# Altium schematic symbol library Michel.SchLib: 45 symbols
Pins are listed as number, name and electrical type; pins without a type are passive.

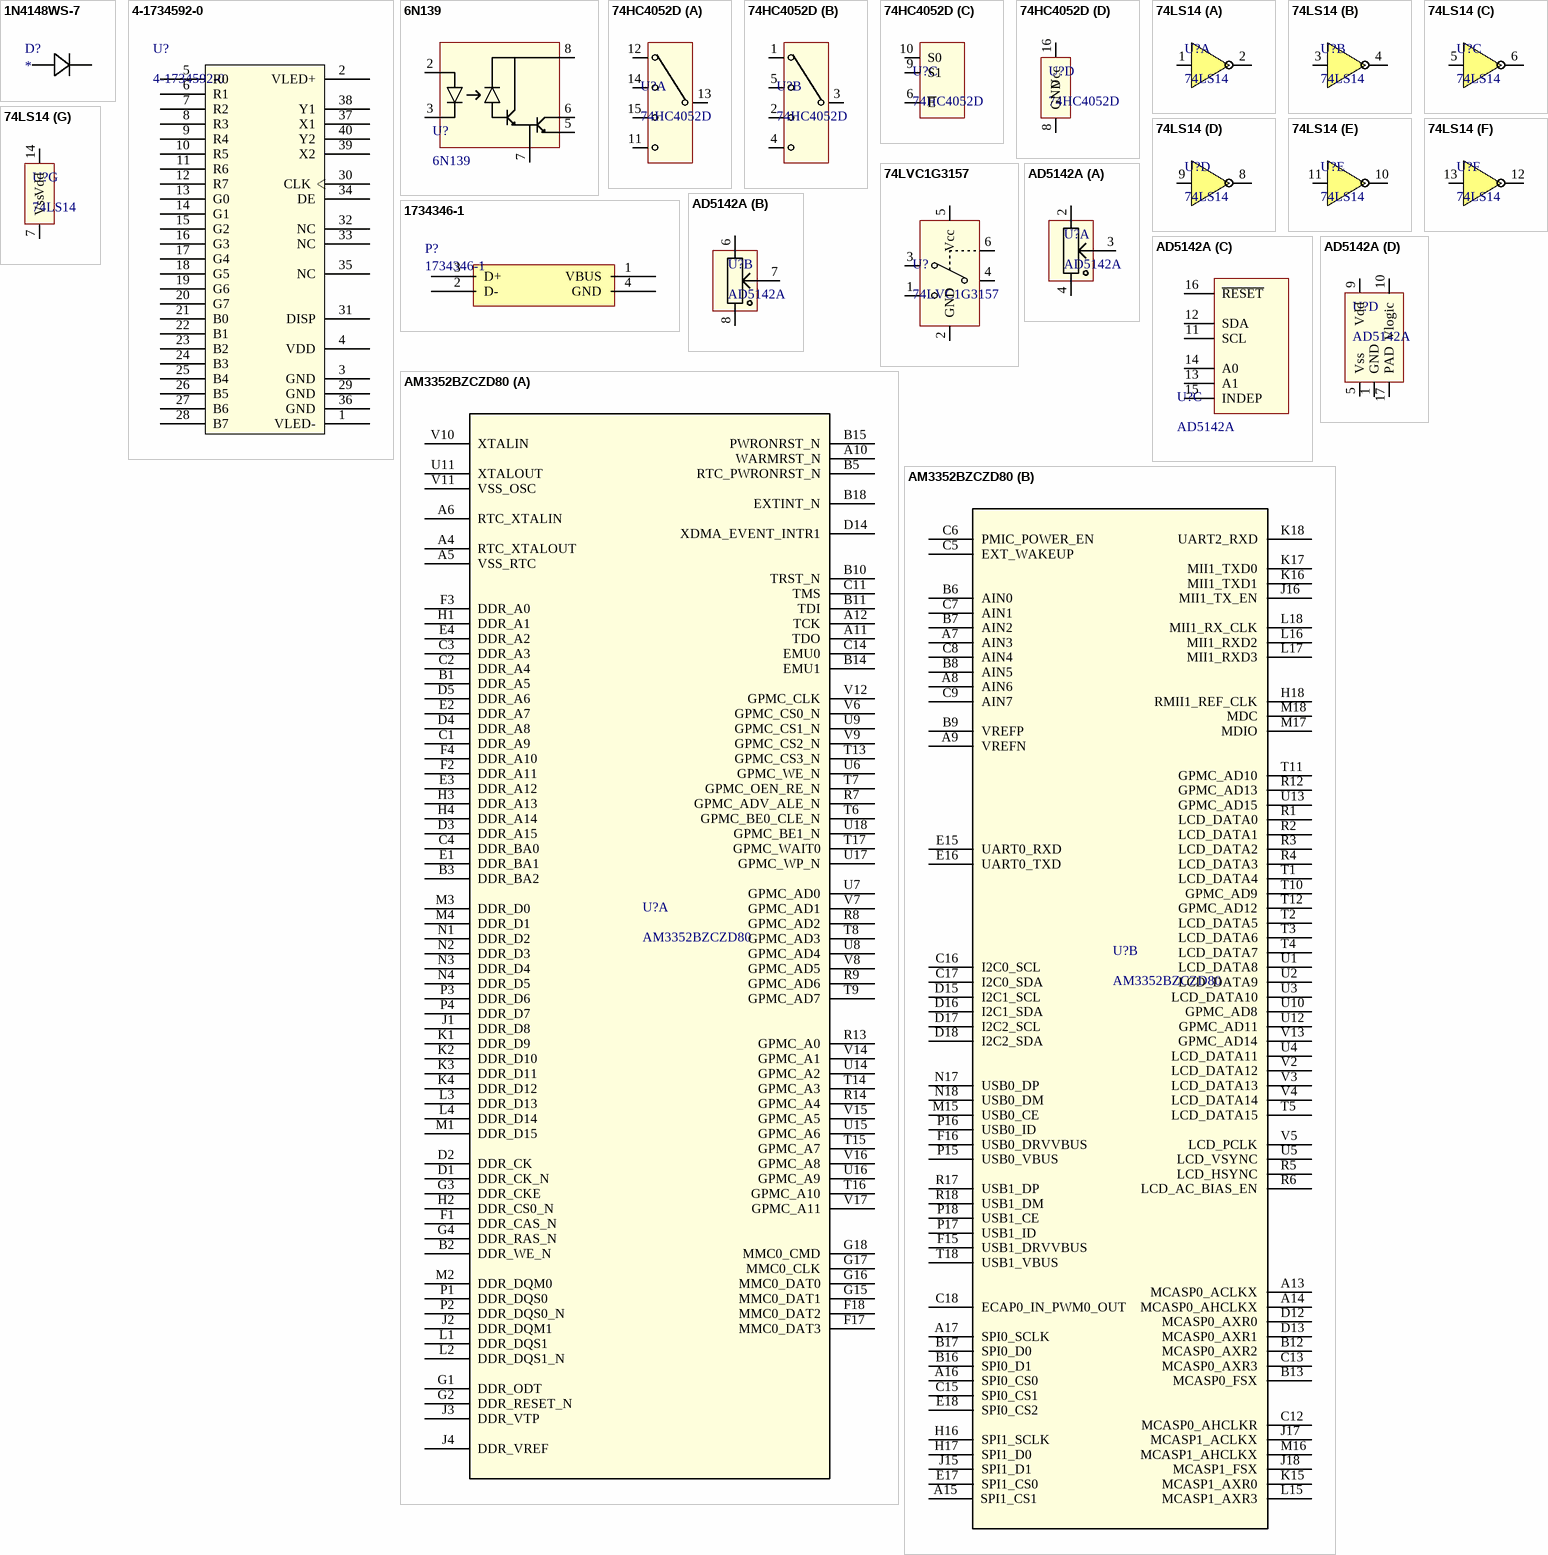
[diagram p0: symbols 1N4148WS-7 to AM3352BZCZD80]

## 1N4148WS-7
designator D?
Diode signaux faibles; RefFabricant: 1N4148WS; RefFournisseur: 2453269; Fabricant: ON SEMICONDUCTOR; Fournisseur: Farnell; DataSheet: http://www.farnell.com/datasheets/2288055.pdf
footprint SOD323
footprint SOD323
footprint SOD323-L
footprint SOD323-M
pins: 1, 2

## 4-1734592-0
designator U?
Connecteur LCD & Touch screen; Fabricant: TE Connectivity; Fournisseur: Farnell; RefFournisseur: 1816399; RefFabricant: 4-1734592-0
footprint TE_4-1734592-0
pins: 1 VLED- "Power for LED backlight cathode", 2 VLED+ "Power for LED backlight anode", 3 GND "Power ground", 4 VDD "Power voltage", 5 R0 "Red data (LSB)", 6 R1 "Red data", 7 R2 "Red data", 8 R3 "Red data", 9 R4 "Red data", 10 R5 "Red data", 11 R6 "Red data", 12 R7 "Red data (MSB)", 13 G0 "Green data (LSB)", 14 G1 "Green data", 15 G2 "Green data", 16 G3 "Green data", 17 G4 "Green data", 18 G5 "Green data", 19 G6 "Green data", 20 G7 "Green data (MSB)", 21 B0 "Blue data (LSB)", 22 B1 "Blue data", 23 B2 "Blue data", 24 B3 "Blue data", 25 B4 "Blue data", 26 B5 "Blue data", 27 B6 "Blue data", 28 B7 "Blue data (MSB)", 29 GND "Power ground", 30 CLK "Pixel clock", 31 DISP "Display on/off", 32 NC "No connection", 33 NC "No connection", 34 DE "Data Enable", 35 NC "No connection", 36 GND "Power ground", 37 X1 "Right electrode – differential analog", 38 Y1 "Bottom electrode – differential analog", 39 X2 "Left electrode – differential analog", 40 Y2 "Top electrode – differential analog"
1 alternate drawing of the same symbol

## 6N139
designator U?
Optocoupler; Fabricant: TOSHIBA; Fournisseur: Farnell; RefFournisseur: 1225823; RefFabricant: 6N139; DataSheet: http://www.farnell.com/datasheets/1266261.pdf
footprint SOIC127P970X356-8N (SOIC, 8-Leads, Body 9.65x6.35mm, Pitch 1.27mm, IPC Medium Density)
pins: 2 B2, 3 B1, 5 B1, 6 B1, 7 B1, 8 B1

## 74HC4052D
designator U?
Dual 4:1 Multiplexer; RefFabricant: 1201328; Fabricant: NEXPERIA; Fournisseur: Farnell; RefFournisseur: 74HC4052D; DataSheet: http://www.farnell.com/datasheets/2051461.pdf
footprint SOT109-1-M
part A pins: 11 1Y3, 12 1Y0, 13 1Z, 14 1Y1, 15 1Y2
part B pins: 1 2Y0, 2 2Y2, 3 2Z, 4 2Y3, 5 2Y1
part C pins: 6 ~{E}, 9 S1, 10 S0
part D pins: 8 GND (power), 16 Vcc (power)

## 74LS14
designator U?
Hex Inverter; RefFabricant: SN74LS14D; Fabricant: TEXAS INSTRUMENTS; RefFournisseur: 9592326; Fournisseur: Farnell; DataSheet: http://www.ti.com/lit/ds/symlink/sn74ls14.pdf
footprint SO14NB
part A pins: 1 A, 2 ~{A}
part B pins: 3 B, 4 ~{B}
part C pins: 5 C, 6 ~{C}
part D pins: 8 ~{D}, 9 D
part E pins: 10 ~{E}, 11 E
part F pins: 12 ~{F}, 13 F
part G pins: 7 Vss (power), 14 Vdd (power)

## 74LVC1G3157
designator U?
Single 2:1 Multiplexer; RefFournisseur: 2463921; RefFabricant: 74LVC1G3157GV,125; Fournisseur: Farnell; Fabricant: NEXPERIA; DataSheet: http://www.farnell.com/datasheets/2053574.pdf
footprint DBV6-M
pins: 1 B2, 2 GND (power), 3 B1, 4 A, 5 Vcc (power), 6 S

## 1734346-1
designator P?
Connecteur USB-Type-B; Fabricant: AMP - TE CONNECTIVITY; RefFabricant: 292304-1; RefFournisseur: 1076665; Fournisseur: Farnell; DataSheet: http://www.farnell.com/datasheets/2365064.pdf
footprint CONN4-292304
pins: 1 VBUS "Power for LED backlight cathode", 2 D- "Red data", 3 D+ "Red data (LSB)", 4 GND "Power ground"

## AD5142A
designator U?
Dual DigiPot non volatile 10Klog I2C; RefFournisseur: 2768195; RefFabricant: AD5142AWBCPZ10-RL7; Fournisseur: Farnell; Fabricant: AD; DataSheet: http://www.farnell.com/datasheets/2313394.pdf
footprint LFCSP16_AD5142 (LFCSP_16)
part A pins: 2 P0A, 3 P0W, 4 P0B
part B pins: 6 P1A, 7 P1W, 8 P1B
part C pins: 11 SCL, 12 SDA, 13 A1 (power), 14 A0 (power), 15 INDEP (power), 16 ~{RESET}
part D pins: 1 GND (power), 5 Vss (power), 9 Vdd (power), 10 Vlogic (power), 17 PAD (power)

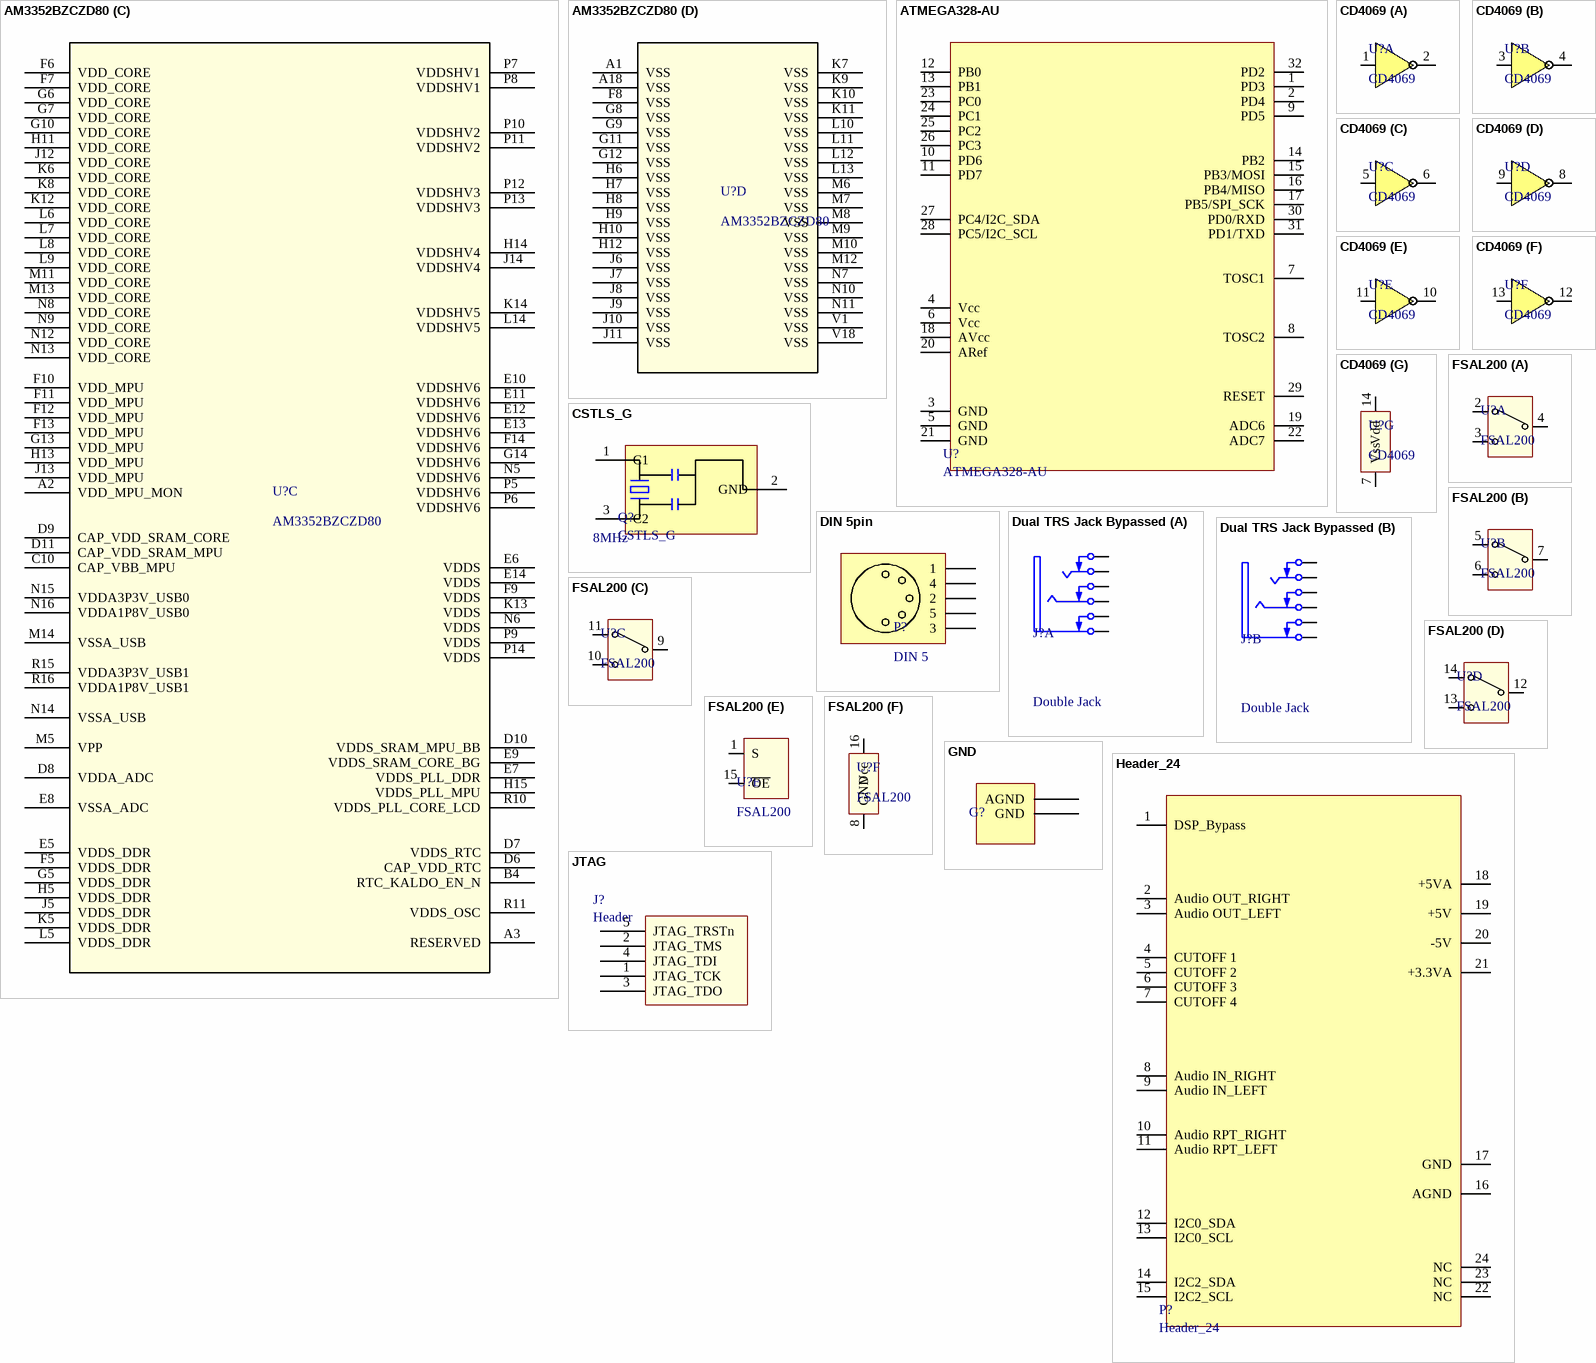
[diagram p1: symbols AM3352BZCZD80 to JTAG]

## AM3352BZCZD80
designator U?
Microprocesseur ARM; Fabricant: Texas Instrument; Fournisseur: Farnell; RefFabricant: AM3352BZCZ100; RefFournisseur: 2494119; DataSheet: http://www.ti.com/lit/ds/symlink/am3352.pdf
footprint ZCZ324
part A pins: A4 RTC_XTALOUT, A5 VSS_RTC, A6 RTC_XTALIN, A10 WARMRST_N, A11 TDO, A12 TCK, B1 DDR_A5, B2 DDR_WE_N, B3 DDR_BA2, B5 RTC_PWRONRST_N, B10 TRST_N, B11 TDI, B14 EMU1, B15 PWRONRST_N, B18 EXTINT_N, C1 DDR_A9, C2 DDR_A4, C3 DDR_A3, C4 DDR_BA0, C11 TMS, C14 EMU0, D1 DDR_CK_N, D2 DDR_CK, D3 DDR_A15, D4 DDR_A8, D5 DDR_A6, D14 XDMA_EVENT_INTR1, E1 DDR_BA1, E2 DDR_A7, E3 DDR_A12, E4 DDR_A2, F1 DDR_CAS_N, F2 DDR_A11, F3 DDR_A0, F4 DDR_A10, F17 MMC0_DAT3, F18 MMC0_DAT2, G1 DDR_ODT, G2 DDR_RESET_N, G3 DDR_CKE, G4 DDR_RAS_N, G15 MMC0_DAT1, G16 MMC0_DAT0, G17 MMC0_CLK, G18 MMC0_CMD, H1 DDR_A1, H2 DDR_CS0_N, H3 DDR_A13, H4 DDR_A14, J1 DDR_D8, J2 DDR_DQM1, J3 DDR_VTP, J4 DDR_VREF, K1 DDR_D9, K2 DDR_D10, K3 DDR_D11, K4 DDR_D12, L1 DDR_DQS1, L2 DDR_DQS1_N, L3 DDR_D13, L4 DDR_D14, M1 DDR_D15, M2 DDR_DQM0, M3 DDR_D0, M4 DDR_D1, N1 DDR_D2, N2 DDR_D3, N3 DDR_D4, N4 DDR_D5, P1 DDR_DQS0, P2 DDR_DQS0_N, P3 DDR_D6, P4 DDR_D7, R7 GPMC_ADV_ALE_N, R8 GPMC_AD2, R9 GPMC_AD6, R13 GPMC_A0, R14 GPMC_A4, T6 GPMC_BE0_CLE_N, T7 GPMC_OEN_RE_N, T8 GPMC_AD3, T9 GPMC_AD7, T13 GPMC_CS3_N, T14 GPMC_A3, T15 GPMC_A7, T16 GPMC_A10, T17 GPMC_WAIT0, U6 GPMC_WE_N, U7 GPMC_AD0, U8 GPMC_AD4, U9 GPMC_CS1_N, U11 XTALOUT, U14 GPMC_A2, U15 GPMC_A6, U16 GPMC_A9, U17 GPMC_WP_N, U18 GPMC_BE1_N, V6 GPMC_CS0_N, V7 GPMC_AD1, V8 GPMC_AD5, V9 GPMC_CS2_N, V10 XTALIN, V11 VSS_OSC, V12 GPMC_CLK, V14 GPMC_A1, V15 GPMC_A5, V16 GPMC_A8, V17 GPMC_A11
part B pins: A7 AIN3, A8 AIN6, A9 VREFN, A13 MCASP0_ACLKX, A14 MCASP0_AHCLKX, A15 SPI1_CS1, A16 SPI0_CS0, A17 SPI0_SCLK, B6 AIN0, B7 AIN2, B8 AIN5, B9 VREFP, B12 MCASP0_AXR2, B13 MCASP0_FSX, B16 SPI0_D1, B17 SPI0_D0, C5 EXT_WAKEUP, C6 PMIC_POWER_EN, C7 AIN1, C8 AIN4, C9 AIN7, C12 MCASP0_AHCLKR, C13 MCASP0_AXR3, C15 SPI0_CS1, C16 I2C0_SCL, C17 I2C0_SDA, C18 ECAP0_IN_PWM0_OUT, D12 MCASP0_AXR0, D13 MCASP0_AXR1, D15 I2C1_SCL, D16 I2C1_SDA, D17 I2C2_SCL, D18 I2C2_SDA, E15 UART0_RXD, E16 UART0_TXD, E17 SPI1_CS0, E18 SPI0_CS2, F15 USB1_DRVVBUS, F16 USB0_DRVVBUS, H16 SPI1_SCLK, H17 SPI1_D0, H18 RMII1_REF_CLK, J15 SPI1_D1, J16 MII1_TX_EN, J17 MCASP1_ACLKX, J18 MCASP1_FSX, K15 MCASP1_AXR0, K16 MII1_TXD1, K17 MII1_TXD0, K18 UART2_RXD, L15 MCASP1_AXR3, L16 MII1_RXD2, L17 MII1_RXD3, L18 MII1_RX_CLK, M15 USB0_CE, M16 MCASP1_AHCLKX, M17 MDIO, M18 MDC, N17 USB0_DP, N18 USB0_DM, P15 USB0_VBUS, P16 USB0_ID, P17 USB1_ID, P18 USB1_CE, R1 LCD_DATA0, R2 LCD_DATA1, R3 LCD_DATA2, R4 LCD_DATA3, R5 LCD_HSYNC, R6 LCD_AC_BIAS_EN, R12 GPMC_AD13, R17 USB1_DP, R18 USB1_DM, T1 LCD_DATA4, T2 LCD_DATA5, T3 LCD_DATA6, T4 LCD_DATA7, T5 LCD_DATA15, T10 GPMC_AD9, T11 GPMC_AD10, T12 GPMC_AD12, T18 USB1_VBUS, U1 LCD_DATA8, U2 LCD_DATA9, U3 LCD_DATA10, U4 LCD_DATA11, U5 LCD_VSYNC, U10 GPMC_AD8, U12 GPMC_AD11, U13 GPMC_AD15, V2 LCD_DATA12, V3 LCD_DATA13, V4 LCD_DATA14, V5 LCD_PCLK, V13 GPMC_AD14
part C pins: A2 VDD_MPU_MON (power), A3 RESERVED, B4 RTC_KALDO_EN_N, C10 CAP_VBB_MPU, D6 CAP_VDD_RTC, D7 VDDS_RTC (power), D8 VDDA_ADC (power), D9 CAP_VDD_SRAM_CORE, D10 VDDS_SRAM_MPU_BB (power), D11 CAP_VDD_SRAM_MPU, E5 VDDS_DDR (power), E6 VDDS (power), E7 VDDS_PLL_DDR (power), E8 VSSA_ADC (power), E9 VDDS_SRAM_CORE_BG (power), E10 VDDSHV6 (power), E11 VDDSHV6 (power), E12 VDDSHV6 (power), E13 VDDSHV6 (power), E14 VDDS (power), F5 VDDS_DDR (power), F6 VDD_CORE (power), F7 VDD_CORE (power), F9 VDDS (power), F10 VDD_MPU (power), F11 VDD_MPU (power), F12 VDD_MPU (power), F13 VDD_MPU (power), F14 VDDSHV6 (power), G5 VDDS_DDR (power), G6 VDD_CORE (power), G7 VDD_CORE (power), G10 VDD_CORE (power), G13 VDD_MPU (power), G14 VDDSHV6 (power), H5 VDDS_DDR (power), H11 VDD_CORE (power), H13 VDD_MPU (power), H14 VDDSHV4 (power), H15 VDDS_PLL_MPU (power), J5 VDDS_DDR (power), J12 VDD_CORE (power), J13 VDD_MPU (power), J14 VDDSHV4 (power), K5 VDDS_DDR (power), K6 VDD_CORE (power), K8 VDD_CORE (power), K12 VDD_CORE (power), K13 VDDS (power), K14 VDDSHV5 (power), L5 VDDS_DDR (power), L6 VDD_CORE (power), L7 VDD_CORE (power), L8 VDD_CORE (power), L9 VDD_CORE (power), L14 VDDSHV5 (power), M5 VPP (power), M11 VDD_CORE (power), M13 VDD_CORE (power), M14 VSSA_USB (power), N5 VDDSHV6 (power), N6 VDDS (power), N8 VDD_CORE (power), N9 VDD_CORE (power), N12 VDD_CORE (power), N13 VDD_CORE (power), N14 VSSA_USB (power), N15 VDDA3P3V_USB0 (power), N16 VDDA1P8V_USB0 (power), P5 VDDSHV6 (power), P6 VDDSHV6 (power), P7 VDDSHV1 (power), P8 VDDSHV1 (power), P9 VDDS (power), P10 VDDSHV2 (power), P11 VDDSHV2 (power), P12 VDDSHV3 (power), P13 VDDSHV3 (power), P14 VDDS (power), R10 VDDS_PLL_CORE_LCD (power), R11 VDDS_OSC (power), R15 VDDA3P3V_USB1 (power), R16 VDDA1P8V_USB1 (power)
part D pins: A1 VSS (power), A18 VSS (power), F8 VSS (power), G8 VSS (power), G9 VSS (power), G11 VSS (power), G12 VSS (power), H6 VSS (power), H7 VSS (power), H8 VSS (power), H9 VSS (power), H10 VSS (power), H12 VSS (power), J6 VSS (power), J7 VSS (power), J8 VSS (power), J9 VSS (power), J10 VSS (power), J11 VSS (power), K7 VSS (power), K9 VSS (power), K10 VSS (power), K11 VSS (power), L10 VSS (power), L11 VSS (power), L12 VSS (power), L13 VSS (power), M6 VSS (power), M7 VSS (power), M8 VSS (power), M9 VSS (power), M10 VSS (power), M12 VSS (power), N7 VSS (power), N10 VSS (power), N11 VSS (power), V1 VSS (power), V18 VSS (power)

## ATMEGA328-AU
designator U?
Micro-contrôleur ATMEGA; Fournisseur: Farnell; RefFournisseur: 1972086; Fabricant: MicroChip; RefFabricant: ATMEGA328-AU; DataSheet: http://www.farnell.com/datasheets/2047852.pdf; Case: TQFP_32
footprint 32A-M
pins: 1 PD3, 2 PD4, 3 GND, 4 Vcc, 5 GND, 6 Vcc, 7 TOSC1, 8 TOSC2, 9 PD5, 10 PD6, 11 PD7, 12 PB0, 13 PB1, 14 PB2, 15 PB3/MOSI, 16 PB4/MISO, 17 PB5/SPI_SCK, 18 AVcc, 19 ADC6, 20 ARef, 21 GND, 22 ADC7, 23 PC0, 24 PC1, 25 PC2, 26 PC3, 27 PC4/I2C_SDA, 28 PC5/I2C_SCL, 29 RESET, 30 PD0/RXD, 31 PD1/TXD, 32 PD2

## CD4069
designator U?
Hex Inverter; RefFournisseur: 1607751; Fournisseur: Farnell; Fabricant: TEXAS INSTRUMENTS; RefFabricant: CD4069UBM; DataSheet: http://www.ti.com/lit/ds/symlink/cd4069ub.pdf
footprint D14-M
part A pins: 1 A, 2 ~{A}
part B pins: 3 B, 4 ~{B}
part C pins: 5 C, 6 ~{C}
part D pins: 8 ~{D}, 9 D
part E pins: 10 ~{E}, 11 E
part F pins: 12 ~{F}, 13 F
part G pins: 7 Vss (power), 14 Vdd (power)

## CSTLS_G
designator Q?  value 8MHz
Ceramic Resonator; RefFabricant: CSTCC8M00G53-R0; Fabricant: MURATA; Fournisseur: Farnell; RefFournisseur: 1170435; DataSheet: http://www.farnell.com/datasheets/19296.pdf
footprint CSTCC_G
pins: 1 C1, 2 GND, 3 C2

## DIN 5pin
designator P?, comment DIN 5
DIN 5pin; RefFabricant: PSG03463; Fournisseur: Farnell; Fabricant: PRO SIGNAL; RefFournisseur: 1791756; DataSheet: http://www.farnell.com/datasheets/1697491.pdf
footprint PRO SIGNAL_PSG03463
pins: 1, 2, 3, 4, 5

## Dual TRS Jack Bypassed
designator J?, comment Double Jack
Dual Jack stereo bypassed; RefFournisseur: 2771861; Fabricant: AMPHENOL; Fournisseur: Farnell; RefFabricant: ACJS-MHDC; DataSheet: http://www.farnell.com/cad/2158945.pdf; Case: Through-Hole_12
footprint Amphenol_ACJS-MHDC (Through-Hole_12)
part A pins: 7 SB "Ring Normal (Break Contact)", 8 RB "Ring Normal (Break Contact)", 9 TB "Ring Normal (Break Contact)", 10 S (power) "Sleeve (Ground)", 11 R "Ring/Right Channel/(-)", 12 T "Tip/Left Channel/(+)"
part B pins: 1 SB "Ring Normal (Break Contact)", 2 RB "Ring Normal (Break Contact)", 3 TB "Ring Normal (Break Contact)", 4 S (power) "Sleeve (Ground)", 5 R "Ring/Right Channel/(-)", 6 T "Tip/Left Channel/(+)"

## FSAL200
designator U?
Quad 2:1 Multiplexer; RefFournisseur: 2450768; Fournisseur: Farnell; RefFabricant: FSAL200QSCX; Fabricant: ON SEMICONDUCTOR; DataSheet: http://www.farnell.com/datasheets/2299862.pdf
footprint TSOP65P730X110-16N (TSOP, 16-Leads, Body 5.00x4.45mm, Pitch 0.65mm, IPC Medium Density)
part A pins: 2 B1, 3 B2, 4 A
part B pins: 5 B1, 6 B2, 7 A
part C pins: 9 A, 10 B2, 11 B1
part D pins: 12 A, 13 B2, 14 B1
part E pins: 1 S, 15 ~{OE}
part F pins: 8 GND (power), 16 Vcc (power)

## GND
designator G?, comment Ground Connector  (value not drawn)
Ground Ultime
footprint GND
pins: 1 AGND, 2 GND

## Header_24
designator P?
Header 24 to Analog part; Fabricant: WURTH ELEKTRONIK; RefFabricant: 61002418221; RefFournisseur: 2356215; Fournisseur: Farnell; DataSheet: http://www.farnell.com/cad/1737269.pdf
footprint Header_24
pins: 1 DSP_Bypass, 2 Audio OUT_RIGHT, 3 Audio OUT_LEFT, 4 CUTOFF 1, 5 CUTOFF 2, 6 CUTOFF 3, 7 CUTOFF 4, 8 Audio IN_RIGHT, 9 Audio IN_LEFT, 10 Audio RPT_RIGHT, 11 Audio RPT_LEFT, 12 I2C0_SDA, 13 I2C0_SCL, 14 I2C2_SDA, 15 I2C2_SCL, 16 AGND, 17 GND, 18 +5VA, 19 +5V, 20 -5V, 21 +3.3VA, 22 NC, 23 NC, 24 NC

## JTAG
designator J?, comment Header
Connecteurs carte à carte; Fournisseur: Farnell; RefFournisseur: 2667442; Fabricant: SAMTEC; RefFabricant: TSM-103-01-S-DV; DataSheet: http://www.farnell.com/datasheets/318453.pdf
footprint CONN_1241050-3_T
pins: 1 JTAG_TCK, 2 JTAG_TMS, 3 JTAG_TDO, 4 JTAG_TDI, 5 JTAG_TRSTn

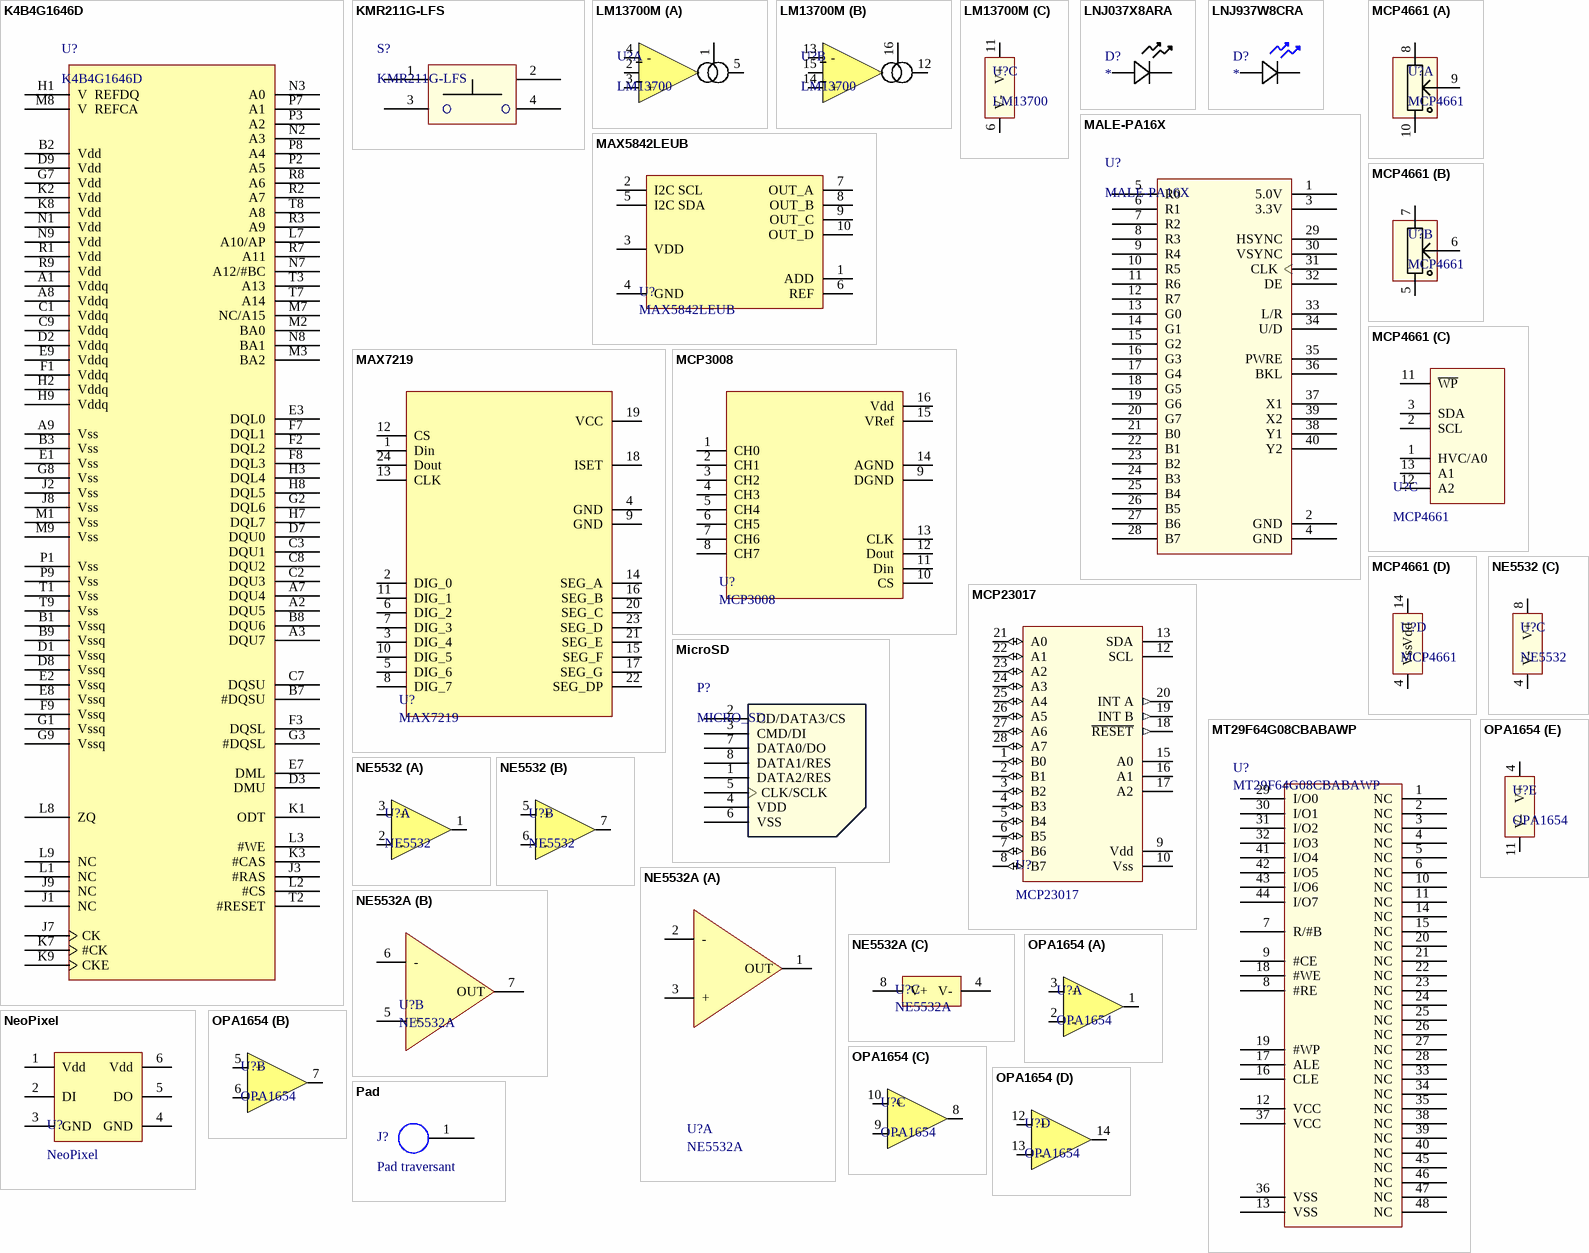
[diagram p2: symbols K4B4G1646D to Pad]

## K4B4G1646D
designator U?
Mémoire DDR3/SRAM; Fabricant: Samsung; Fournisseur: Olimex; RefFabricant: DS_K4B4G1646D; RefFournisseur: K4B4G1646D-BCK0; DataSheet: http://www.samsung.com/global/business/semiconductor/file/product/DS_K4B4G1646D-BC_I_P_Rev102.pdf
footprint BGA96C80P16X6_133X75X11
pins: A1 Vddq "DQ Power Supply: 1.5V +/- 0.075V", A2 DQU5 "Data Input/ Output:   Bi-directional data bus", A3 DQU7 "Data Input/ Output:   Bi-directional data bus", A7 DQU4 "Data Input/ Output:   Bi-directional data bus", A8 Vddq "DQ Power Supply: 1.5V +/- 0.075V", A9 Vss "Ground", B1 Vssq "DQ Ground", B2 Vdd "Power Supply: 1.5V +/- 0.075V", B3 Vss "Ground", B7 #DQSU "Data Strobe", B8 DQU6 "Data Input/ Output:   Bi-directional data bus", B9 Vssq "DQ Ground", C1 Vddq "DQ Power Supply: 1.5V +/- 0.075V", C2 DQU3 "Data Input/ Output:   Bi-directional data bus", C3 DQU1 "Data Input/ Output:   Bi-directional data bus", C7 DQSU "Data Strobe", C8 DQU2 "Data Input/ Output:   Bi-directional data bus", C9 Vddq "DQ Power Supply: 1.5V +/- 0.075V", D1 Vssq "DQ Ground", D2 Vddq "DQ Power Supply: 1.5V +/- 0.075V", D3 DMU "Input Data Mask", D7 DQU0 "Data Input/ Output:   Bi-directional data bus", D8 Vssq "DQ Ground", D9 Vdd "Power Supply: 1.5V +/- 0.075V", E1 Vss "Ground", E2 Vssq "DQ Ground", E3 DQL0 "Data Input/ Output:   Bi-directional data bus", E7 DML "Input Data Mask", E8 Vssq "DQ Ground", E9 Vddq "DQ Power Supply: 1.5V +/- 0.075V", F1 Vddq "DQ Power Supply: 1.5V +/- 0.075V", F2 DQL2 "Data Input/ Output:   Bi-directional data bus", F3 DQSL "Data Strobe", F7 DQL1 "Data Input/ Output:   Bi-directional data bus", F8 DQL3 "Data Input/ Output:   Bi-directional data bus", F9 Vssq "DQ Ground", G1 Vssq "DQ Ground", G2 DQL6 "Data Input/ Output:   Bi-directional data bus", G3 #DQSL "Data Strobe", G7 Vdd "Power Supply: 1.5V +/- 0.075V", G8 Vss "Ground", G9 Vssq "DQ Ground", H1 V  REFDQ "Reference voltage for DQ", H2 Vddq "DQ Power Supply: 1.5V +/- 0.075V", H3 DQL4 "Data Input/ Output:   Bi-directional data bus", H7 DQL7 "Data Input/ Output:   Bi-directional data bus", H8 DQL5 "Data Input/ Output:   Bi-directional data bus", H9 Vddq "DQ Power Supply: 1.5V +/- 0.075V", J1 NC "No Connect:   No internal electrical   connection is present.", J2 Vss "Ground", J3 #RAS "Command Inputs", J7 CK "Clock: CK and CK are differential clock inputs", J8 Vss "Ground", J9 NC "No Connect:   No internal electrical   connection is present.", K1 ODT "On Die Termination", K2 Vdd "Power Supply: 1.5V +/- 0.075V", K3 #CAS "Command Inputs", K7 #CK "Clock: CK and CK are differential clock inputs", K8 Vdd "Power Supply: 1.5V +/- 0.075V", K9 CKE "Clock Enable: CKE HIGH activates, and CKE Low deactivates", L1 NC "No Connect:   No internal electrical   connection is present.", L2 #CS "Chip Select:", L3 #WE "Command Inputs", L7 A10/AP "Autoprecharge", L8 ZQ "Reference Pin for ZQ calibration", L9 NC "No Connect:   No internal electrical   connection is present.", M1 Vss "Ground", M2 BA0 "Bank Adress Inputs", M3 BA2 "Bank Adress Inputs", M7 NC/A15 "No Connect:   No internal electrical   connection is present.", M8 V  REFCA "Reference voltage for CA", M9 Vss "Ground", N1 Vdd "Power Supply: 1.5V +/- 0.075V", N2 A3 "Address Inputs", N3 A0 "Address Inputs", N7 A12/#BC "Burst Chop", N8 BA1 "Bank Adress Inputs", N9 Vdd "Power Supply: 1.5V +/- 0.075V", P1 Vss "Ground", P2 A5 "Address Inputs", P3 A2 "Address Inputs", P7 A1 "Address Inputs", P8 A4 "Address Inputs", P9 Vss "Ground", R1 Vdd "Power Supply: 1.5V +/- 0.075V", R2 A7 "Address Inputs", R3 A9 "Address Inputs", R7 A11 "Address Inputs", R8 A6 "Address Inputs", R9 Vdd "Power Supply: 1.5V +/- 0.075V", T1 Vss "Ground", T2 #RESET "Active Low Asynchronous Reset", T3 A13 "Address Inputs", T7 A14 "Address Inputs", T8 A8 "Address Inputs", T9 Vss "Ground"

## KMR211G-LFS
designator S?
Commutateur tactile; Fournisseur: Farnell; RefFournisseur: 1437635; RefFabricant: KMR211G LFS; Fabricant: C & K COMPONENTS; DataSheet: http://www.farnell.com/datasheets/2044619.pdf; Case: SMT_4
footprint C&K_KMR211G
pins: 1 "Power Supply: 1.5V +/- 0.075V", 2 "Power Supply: 1.5V +/- 0.075V", 3 "Power Supply: 1.5V +/- 0.075V", 4 "Power Supply: 1.5V +/- 0.075V"

## LM13700M
designator U?, comment LM13700
Dual Transconductance OpAmp; Fournisseur: Farnell; Fabricant: TEXAS INSTRUMENTS; RefFabricant: LM13700M/NOPB; RefFournisseur: 1468910; DataSheet: http://www.ti.com/lit/ds/symlink/lm13700.pdf
footprint SO16NB
part A pins: 1 BIAS, 2 Diode BIAS, 3 +, 4 -, 5 OUT
part B pins: 12 OUT, 13 -, 14 +, 15 Diode BIAS, 16 BIAS
part C pins: 6 V- (power), 11 V+ (power)

## LNJ037X8ARA
designator D?
LED Blanc; RefFabricant: LNJ037X8ARA; RefFournisseur: 1908051; Fabricant: PANASONIC ELECTRONIC COMPONENTS; Fournisseur: Farnell; DataSheet: http://www.farnell.com/datasheets/2085723.pdf
footprint LED_LNJ
footprint LED_LNJ
pins: 1, 2

## LNJ937W8CRA
designator D?
LED Bleu; RefFabricant: LNJ937W8CRA; RefFournisseur: 1908058; Fabricant: PANASONIC ELECTRONIC COMPONENTS; Fournisseur: Farnell; DataSheet: http://www.farnell.com/datasheets/1915212.pdf
footprint LED_LNJ
footprint LED_LNJ
pins: 1, 2

## MALE-PA16X
designator U?
Connecteur LCD & Touch screen (limande); Fournisseur: Olimex; RefFournisseur: MALE-PAV16X-2x05; RefFabricant: MALE-PA16X; DataSheet: https://www.olimex.com/Products/Components/Connectors/MALE-PAV16X-2x05/resources/MALE-PA16X-2Xxx.jpg
footprint MALE-PAV16X-2x05
pins: 1 5.0V "Power for LED backlight cathode", 2 GND "Power for LED backlight anode", 3 3.3V "Power ground", 4 GND "Power voltage", 5 R0 "Red data (LSB)", 6 R1 "Red data", 7 R2 "Red data", 8 R3 "Red data", 9 R4 "Red data", 10 R5 "Red data", 11 R6 "Red data", 12 R7 "Red data (MSB)", 13 G0 "Green data (LSB)", 14 G1 "Green data", 15 G2 "Green data", 16 G3 "Green data", 17 G4 "Green data", 18 G5 "Green data", 19 G6 "Green data", 20 G7 "Green data (MSB)", 21 B0 "Blue data (LSB)", 22 B1 "Blue data", 23 B2 "Blue data", 24 B3 "Blue data", 25 B4 "Blue data", 26 B5 "Blue data", 27 B6 "Blue data", 28 B7 "Blue data (MSB)", 29 HSYNC "Power ground", 30 VSYNC "Pixel clock", 31 CLK "Display on/off", 32 DE "No connection", 33 L/R "No connection", 34 U/D "Data Enable", 35 PWRE "No connection", 36 BKL "Power ground", 37 X1 "Right electrode – differential analog", 38 Y1 "Bottom electrode – differential analog", 39 X2 "Left electrode – differential analog", 40 Y2 "Top electrode – differential analog"
1 alternate drawing of the same symbol

## MAX5842LEUB
designator U?
Quad DAC Package; Fournisseur: Farnell; Ref Fabricant: MAX5842LEUB+; Ref Fournisseur: 2518696; Fabricant: MAXIM INTEGRATED PRODUCTS; DataSheet: http://www.farnell.com/datasheets/74794.pdf; Case: uMax_10
footprint 21-0061L-M (uMax_10)
pins: 1 ADD, 2 I2C SCL, 3 VDD, 4 GND, 5 I2C SDA, 6 REF, 7 OUT_A, 8 OUT_B, 9 OUT_C, 10 OUT_D

## MAX7219
designator U?
LED_Controller; RefFabricant: MAX7219CWG+; Fabricant: MAXIM; RefFournisseur: 2519520; Fournisseur: Farnell; DataSheet: http://www.farnell.com/datasheets/1825883.pdf; Case: SOIC_24
footprint 21-0042B_24-M (SOIC_24)
pins: 1 Din, 2 DIG_0, 3 DIG_4, 4 GND, 5 DIG_6, 6 DIG_2, 7 DIG_3, 8 DIG_7, 9 GND, 10 DIG_5, 11 DIG_1, 12 CS, 13 CLK, 14 SEG_A, 15 SEG_F, 16 SEG_B, 17 SEG_G, 18 ISET, 19 VCC, 20 SEG_C, 21 SEG_E, 22 SEG_DP, 23 SEG_D, 24 Dout

## MCP3008
designator U?
8 ADC Package SPI; RefFournisseur: 1627174; RefFabricant: MCP3008-I/P; Fabricant: MICROCHIP; Fournisseur: Farnell; DataSheet: http://www.farnell.com/datasheets/808965.pdf
footprint SOIC16_MCP3008
pins: 1 CH0, 2 CH1, 3 CH2, 4 CH3, 5 CH4, 6 CH5, 7 CH6, 8 CH7, 9 DGND, 10 CS, 11 Din, 12 Dout, 13 CLK, 14 AGND, 15 VRef, 16 Vdd

## MCP4661
designator U?
Dual DigiPot non volatile I2C; RefFournisseur: 1840724; RefFabricant: MCP4661-503E/ST; Fournisseur: Farnell; Fabricant: MICROCHIP; DataSheet: http://www.farnell.com/datasheets/2243913.pdf
footprint TSSOP14_MC-M
part A pins: 8 P0A, 9 P0W, 10 P0B
part B pins: 5 P1B, 6 P1W, 7 P1A
part C pins: 1 HVC/A0 (power), 2 SCL, 3 SDA, 11 ~{WP}, 12 A2 (power), 13 A1 (power)
part D pins: 4 Vss (power), 14 Vdd (power)

## MCP23017
designator U?
16b I/O Expander; RefFournisseur: MCP23017-E/SO; RefFabricant: 1332087; Fournisseur: Farnell; Fabricant: MICROCHIP; DataSheet: http://www.farnell.com/datasheets/12179.pdf
footprint SOIC28_MCP23017
pins: 1 B0 (io), 2 B1 (io), 3 B2 (io), 4 B3 (io), 5 B4 (io), 6 B5 (io), 7 B6 (io), 8 B7 (io), 9 Vdd (power), 10 Vss (power), 12 SCL, 13 SDA, 15 A0, 16 A1, 17 A2, 18 ~{RESET} (out), 19 INT B (out), 20 INT A (out), 21 A0 (io), 22 A1 (io), 23 A2 (io), 24 A3 (io), 25 A4 (io), 26 A5 (io), 27 A6 (io), 28 A7 (io)

## MicroSD
designator P?, comment MICRO_SD
Embase mémoire; Fournisseur: Farnell; Fabricant: WURTH ELEKTRONIK; RefFabricant: 693072010801; RefFournisseur: 2081364; DataSheet: http://www.farnell.com/datasheets/1912449.pdf
footprint WURTH ELEKTRONIK_693072010801
pins: 1 DATA2/RES, 2 CD/DATA3/CS, 3 CMD/DI, 4 VDD (power), 5 CLK/SCLK, 6 VSS (power), 7 DATA0/DO, 8 DATA1/RES

## MT29F64G08CBABAWP
designator U?
Mémoire Flash/NAND; Fournisseur: Olimex; Fabricant: hynix; RefFournisseur: H27UBG8T2BTR; RefFabricant: MT29F64G08CBABAWP; DataSheet: https://www.olimex.com/Products/Components/IC/H27UBG8T2BTR/resources/H27UBG8T2BTR.pdf
footprint TSSOP50P2000X120-48N (TSSOP, 48-Leads, Body 12.01x18.40mm, Pitch 0.50mm, IPC Medium Density)
pins: 1 NC, 2 NC, 3 NC, 4 NC, 5 NC, 6 NC, 7 R/#B, 8 #RE, 9 #CE, 10 NC, 11 NC, 12 VCC, 13 VSS, 14 NC, 15 NC, 16 CLE, 17 ALE, 18 #WE, 19 #WP, 20 NC, 21 NC, 22 NC, 23 NC, 24 NC, 25 NC, 26 NC, 27 NC, 28 NC, 29 I/O0, 30 I/O1, 31 I/O2, 32 I/O3, 33 NC, 34 NC, 35 NC, 36 VSS, 37 VCC, 38 NC, 39 NC, 40 NC, 41 I/O4, 42 I/O5, 43 I/O6, 44 I/O7, 45 NC, 46 NC, 47 NC, 48 NC

## NE5532
designator U?
Dual Audio OpAmp; Fournisseur: Farnell; RefFournisseur: 1103060; Fabricant: TEXAS INSTRUMENTS; RefFabricant: NE5532; DataSheet: http://www.ti.com/lit/ds/symlink/ne5532a.pdf
footprint D8-M
part A pins: 1 OUT, 2 -, 3 +
part B pins: 5 +, 6 -, 7 OUT
part C pins: 4 V- (power), 8 V+ (power)

## NE5532A
designator U?
Amplificateur Opérationnel; Fabricant: TEXAS INSTRUMENTS; RefFabricant: NE5532AD; Fournisseur: Farnell; RefFournisseur: 1103060; DataSheet: http://www.ti.com/lit/ds/symlink/ne5532a.pdf
footprint D8-M
part A pins: 1 OUT, 2 -, 3 +
part B pins: 5 +, 6 -, 7 OUT
part C pins: 4 V-, 8 V+

## NeoPixel
designator U?
NeoPixel RGB led
pins: 1 Vdd, 2 DI, 3 GND, 4 GND, 5 DO, 6 Vdd

## OPA1654
designator U?
Quad Audio OpAmp; Fabricant: TEXAS INSTRUMENTS; RefFournisseur: 2099889; Fournisseur: Farnell; RefFabricant: OPA1654; DataSheet: http://www.ti.com/lit/ds/symlink/opa1654.pdf
footprint D14-M
part A pins: 1 OUT, 2 -, 3 +
part B pins: 5 +, 6 -, 7 OUT
part C pins: 8 OUT, 9 -, 10 +
part D pins: 12 +, 13 -, 14 OUT
part E pins: 4 V+ (power), 11 V- (power)

## Pad
designator J?, comment Pad traversant
footprint Pad
pins: 1 PAD

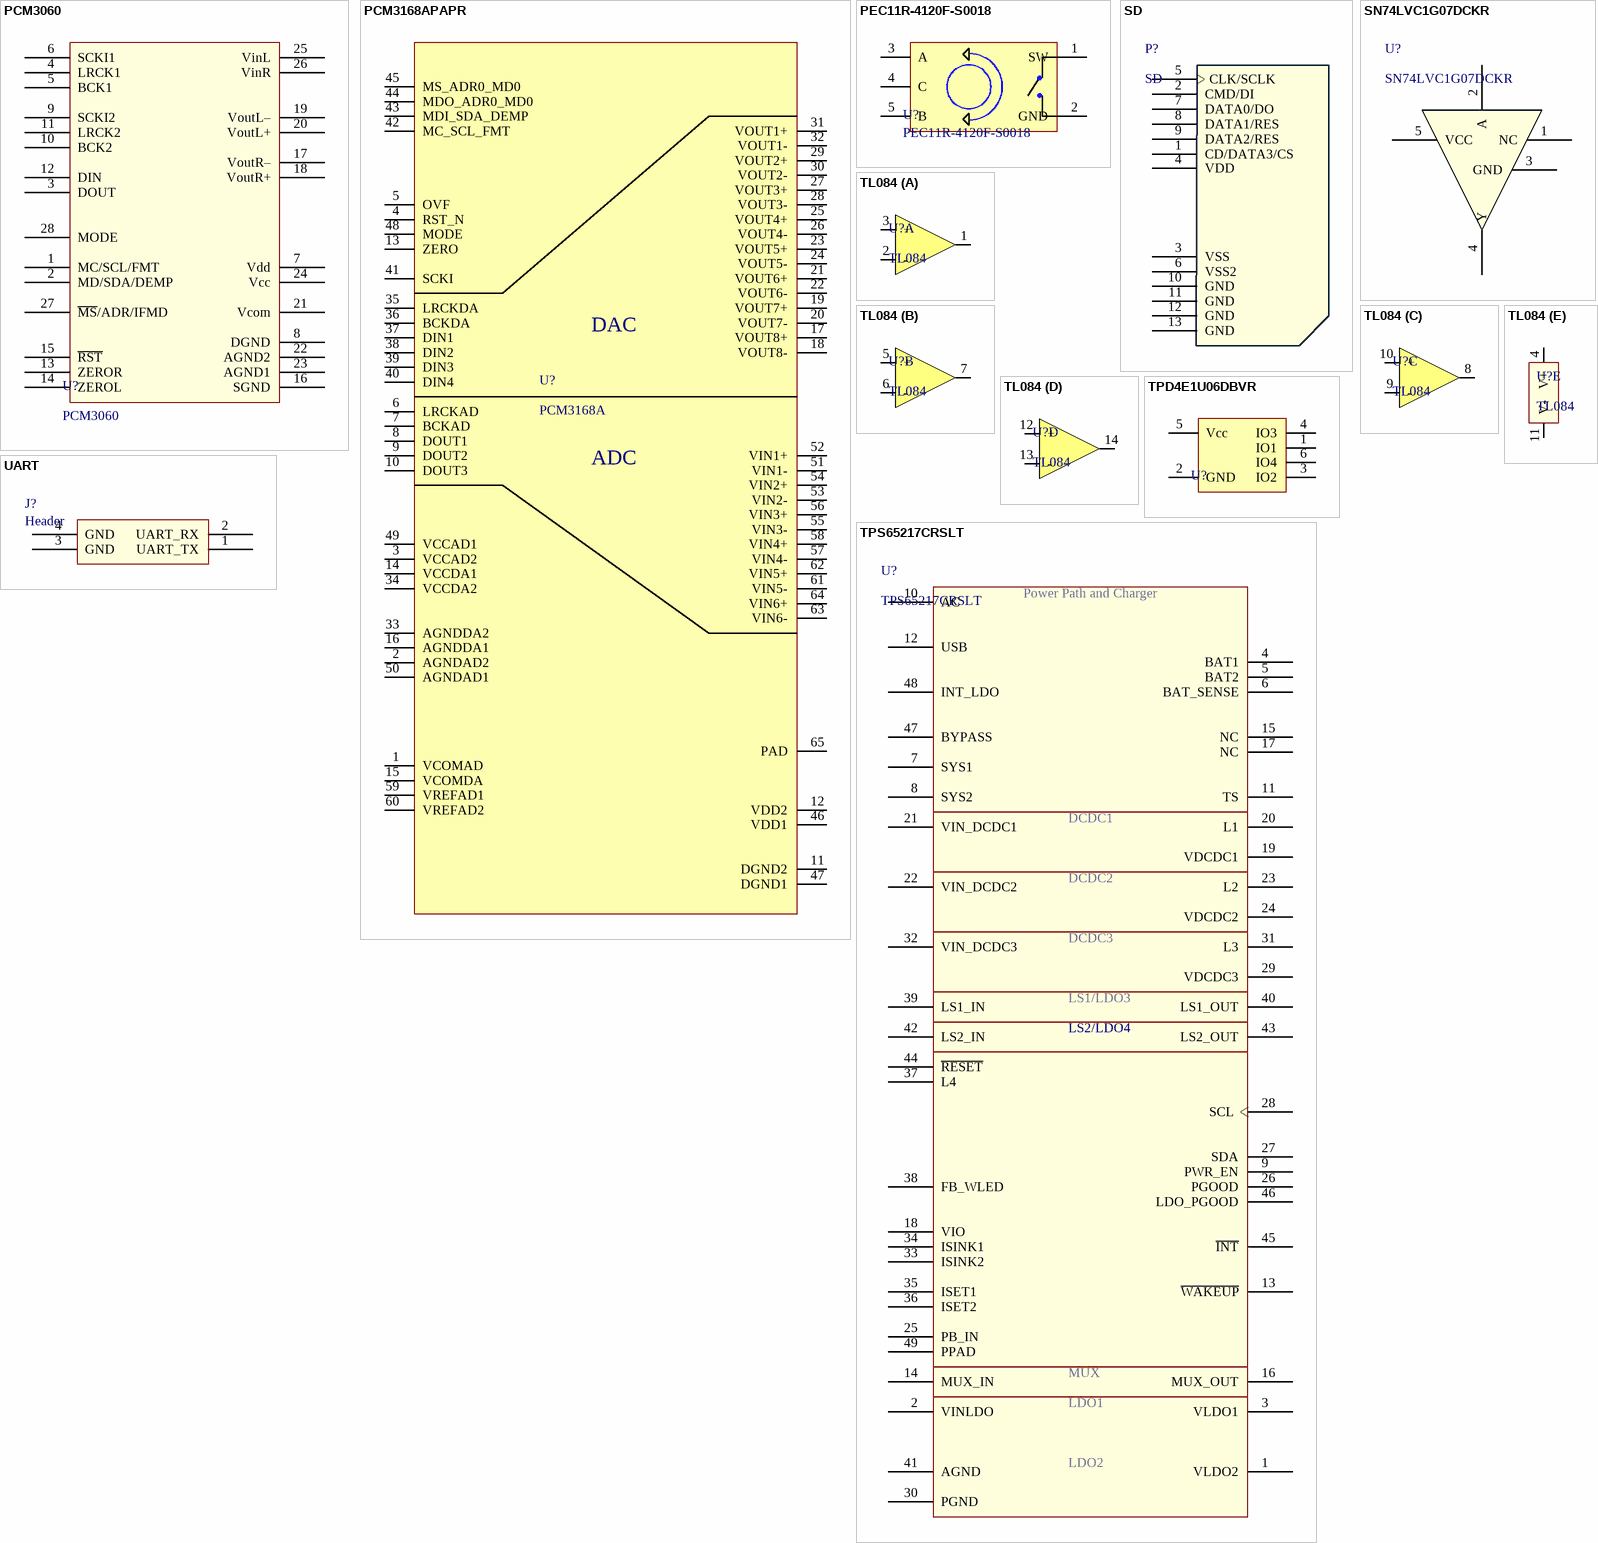
[diagram p3: symbols PCM3060 to UART]

## PCM3060
designator U?
Stereo In/Out Audio Codec; Fabricant: TEXAS INSTRUMENTS; RefFabricant: PCM3060PW; Fournisseur: Farnell; RefFournisseur: 1390706; Datasheet: http://www.ti.com/lit/ds/symlink/pcm3060.pdf
pins: 1 MC/SCL/FMT, 2 MD/SDA/DEMP, 3 DOUT, 4 LRCK1, 5 BCK1, 6 SCKI1, 7 Vdd, 8 DGND, 9 SCKI2, 10 BCK2, 11 LRCK2, 12 DIN, 13 ZEROR, 14 ZEROL, 15 ~{RST}, 16 SGND, 17 VoutR–, 18 VoutR+, 19 VoutL–, 20 VoutL+, 21 Vcom, 22 AGND2, 23 AGND1, 24 Vcc, 25 VinL, 26 VinR, 27 ~{MS}/ADR/IFMD, 28 MODE

## PCM3168APAPR
designator U?, comment PCM3168A
Codec Audio, 6ADC/8DAC; RefFournisseur: 2496455; Fournisseur: Farnell; RefFabricant: PCM3168APAP; Fabricant: TEXAS INSTRUMENTS; DataSheet: http://www.ti.com/lit/ds/symlink/pcm3168a.pdf
footprint PAP64_7X7P26
pins: 1 VCOMAD, 2 AGNDAD2, 3 VCCAD2, 4 RST_N, 5 OVF, 6 LRCKAD, 7 BCKAD, 8 DOUT1, 9 DOUT2, 10 DOUT3, 11 DGND2, 12 VDD2, 13 ZERO, 14 VCCDA1, 15 VCOMDA, 16 AGNDDA1, 17 VOUT8+, 18 VOUT8-, 19 VOUT7+, 20 VOUT7-, 21 VOUT6+, 22 VOUT6-, 23 VOUT5+, 24 VOUT5-, 25 VOUT4+, 26 VOUT4-, 27 VOUT3+, 28 VOUT3-, 29 VOUT2+, 30 VOUT2-, 31 VOUT1+, 32 VOUT1-, 33 AGNDDA2, 34 VCCDA2, 35 LRCKDA, 36 BCKDA, 37 DIN1, 38 DIN2, 39 DIN3, 40 DIN4, 41 SCKI, 42 MC_SCL_FMT, 43 MDI_SDA_DEMP, 44 MDO_ADR0_MD0, 45 MS_ADR0_MD0, 46 VDD1, 47 DGND1, 48 MODE, 49 VCCAD1, 50 AGNDAD1, 51 VIN1-, 52 VIN1+, 53 VIN2-, 54 VIN2+, 55 VIN3-, 56 VIN3+, 57 VIN4-, 58 VIN4+, 59 VREFAD1, 60 VREFAD2, 61 VIN5-, 62 VIN5+, 63 VIN6-, 64 VIN6+, 65 PAD
text: DAC; ADC

## PEC11R-4120F-S0018
designator U?
Encodeurs cliquables; RefFournisseur: 2663521; Fournisseur: Farnell; Fabricant: BOURNS; RefFabricant: PEC11R-4120F-S0018; DataSheet: http://www.farnell.com/datasheets/2360546.pdf
footprint BOURNS_PEC11R-4120F-S0018
pins: 1 SW, 2 GND, 3 A, 4 C, 5 B

## SD
designator P?
Embase mémoire; Fournisseur: Farnell; Fabricant: WURTH ELEKTRONIK; RefFabricant: 693063020911; RefFournisseur: 2081361; DataSheet: http://www.farnell.com/datasheets/1912447.pdf
footprint WURTH ELEKTRONIK_693063020911
pins: 1 CD/DATA3/CS, 2 CMD/DI, 3 VSS (power), 4 VDD (power), 5 CLK/SCLK, 6 VSS2, 7 DATA0/DO, 8 DATA1/RES, 9 DATA2/RES, 10 GND, 11 GND, 12 GND, 13 GND

## SN74LVC1G07DCKR
designator U?
Buffers & Transmetteurs; RefFournisseur: 1287544; Fabricant: Texas Instrument; Fournisseur: Farnell; RefFabricant: SN74LVC1G07DCKR; DataSheet: http://www.ti.com/lit/ds/symlink/sn74lvc1g07.pdf
footprint DCK5
pins: 1 NC, 2 A, 3 GND (power), 4 Y, 5 VCC (power)

## TL084
designator U?
Quad Audio OpAmp; RefFournisseur: 2463921; Fournisseur: Farnell; Fabricant: TEXAS INSTRUMENTS; RefFabricant: TL084ID; DataSheet: http://www.ti.com/lit/ds/symlink/tl084.pdf
footprint D14-M
part A pins: 1 OUT, 2 -, 3 +
part B pins: 5 +, 6 -, 7 OUT
part C pins: 8 OUT, 9 -, 10 +
part D pins: 12 +, 13 -, 14 OUT
part E pins: 4 V+ (power), 11 V- (power)

## TPD4E1U06DBVR
designator U?  (value not drawn)
Protection_ESD; RefFournisseur: 2496529; Fournisseur: Farnell; Fabricant: Texas Instrument; DataSheet: http://www.ti.com/lit/ds/symlink/tpd4e1u06.pdf; RefFabricant: TPD4E1U06DBVR
footprint DBV6-M
pins: 1 IO1, 2 GND, 3 IO2, 4 IO3, 5 Vcc, 6 IO4

## TPS65217CRSLT
designator U?
Gestion d'alimentation PMIC; Fabricant: Texas Instruments; Fournisseur: Farnell; RefFournisseur: 2492485; RefFabricant: TPS65217CRSLT; DataSheet: http://www.ti.com/lit/ds/symlink/tps65217.pdf
footprint CRSLT
pins: 1 VLDO2 "Output voltage of LDO2", 2 VINLDO "Output voltage of LDO1 and LDO2", 3 VLDO1 "Output voltage of LDO1", 4 BAT1 "Battery charger output. Connect to battery.", 5 BAT2 "Battery charger output. Connect to battery.", 6 BAT_SENSE "Battery voltage sense input, connect to BAT directly at the battery terminal.", 7 SYS1 "System voltage pin and output of the power path. All voltage regulator sare typically powered from this output.", 8 SYS2 "System voltage pin and output of the power path. All voltage regulator sare typically powered from this output.", 9 PWR_EN "Enable input for DCDC1, DCDC2, DCDC3 converters and LDO1, LDO2, LDO3, LDO4. Pull this pin high to start the power-upsequence.", 10 AC "AC adaptater input to power path. Connect to an external dc supply.", 11 TS "Temperature sense input. Connect to NTC thermistor to sense battery temperature. Works with 10k and 100k thermistors. See charger section for details.", 12 USB "USB voltage input to power path. Connect to external voltage from a USB port.", 13 ~{WAKEUP} "Signal to host to indicate a power on event (active-low, open-drain output)", 14 MUX_IN "Input to analog multiplexer", 15 NC "Not used", 16 MUX_OUT "Output in of analog multiplexer", 17 NC "Not used", 18 VIO "Output-high supply for output buffers", 19 VDCDC1 "DCDC1 output and feedback voltage-sense input", 20 L1 "Switch pin for DCDC1. Connect to Inductor.", 21 VIN_DCDC1 "Input voltage for DCDC1. Must be connected to SYSpin.", 22 VIN_DCDC2 "Input voltage for DCDC2. Must be connected to SYSpin.", 23 L2 "Switch pin for DCDC2. Connect to Inductor.", 24 VDCDC2 "DCDC2 output and feedback voltage-sense input", 25 PB_IN "Push-button monitor input.Typically connected to a momentary switch to ground(active-low).", 26 PGOOD "Power-good output (push-pull output). Pulled low when any of the power rails are out of regulation. Behavior is register programmable.", 27 SDA "Dataline for the I2C interface", 28 SCL "Clock input for the I2C interface", 29 VDCDC3 "DCDC3 output and feedback voltage-sense input", 30 PGND "Power ground. Connect to ground plane", 31 L3 "Switch pin for DCDC3. Connect to Inductor.", 32 VIN_DCDC3 "Input voltage for DCDC3. Must be connected to SYSpin.", 33 ISINK2 "Input to the WLED current SINK2. Connect to the cathode of the WLED string. Current through SINK1 equals current through ISINK2. If only one WLED string is used, short ISINK1 and ISINK2 together.", 34 ISINK1 "Input to the WLED current SINK1. Connect to the cathode of the WLED string. Current through SINK1 equals current through ISINK2. If only one WLED string is used, short ISINK1 and ISINK2 together.", 35 ISET1 "Low-level WLED current set. Connect a resistor to ground to set the WLED low-current level.", 36 ISET2 "High-level WLED current set. Connect a resistorto ground to set the WLED high-current level.", 37 L4 "Switch pin of the WLED boost converter. Connected to Inductor.", 38 FB_WLED "Feedback pin for WLED boost converter. Also connected to the Anode of the WLED strings.", 39 LS1_IN "Input-- voltage pin for load switch1 or LDO3", 40 LS1_OUT "Output voltage pin for load switch1 or LDO3", 41 AGND "Analog GND, connect to PGND (PowerPad)", 42 LS2_IN "Input voltage pin for load switch2 or LDO4", 43 LS2_OUT "Output voltage pin for load switch2 or LDO4", 44 ~{RESET} "Reset pin (active-low). Pulling this pin low causes the PMIC to shut down, and after 1s to power up in its default state.", 45 ~{INT} "Interrupt output (active-low, open-drain). Pin is pulledlow if an interrupt bit is set. The output goes high after the bit causing the interrupt in register INT has been read. The interrupt sources can be masked in register INT, so no interrupt is generated when the corresponding interrupt bit is set.", 46 LDO_PGOOD "LDO power good (LDO1 and LDO2 only, push-pull output). Pulled low when either LDO1 or LDO2 is out of regulation.", 47 BYPASS "Internal bias voltage (2.25V). It is not recommendedto connectany external load to this pin.", 48 INT_LDO "Internal bias voltage (2.3 V). It is not recommended to connect any external load to this pin.", 49 PPAD "Thermal pad"
text: Power Path and Charger; DCDC1; DCDC2; DCDC3; LS1/LDO3; LS2/LDO4; MUX; LDO1; LDO2

## UART
designator J?, comment Header
Connecteurs carte à carte; Fournisseur: Farnell; RefFournisseur: 9689559; Fabricant: AMP - TE CONNECTIVITY; RefFabricant: 1241050-2; DataSheet: http://www.farnell.com/datasheets/318453.pdf
footprint CONN_1241050-2_T
pins: 1 UART_TX, 2 UART_RX, 3 GND, 4 GND